# EAGLE library part DS90C363B_DS90C365_THC63LVDM63R (library m-pad)
National Smeiconductors DS90CF363B +3.3V Programmable LVDS Transmitter 18-Bit Flat Panel Display (FPD) Link -65 MHz General Description: The DS90CF363B transmitter converts 21 bits of CMOS/TTL data into three LVDS (Low Voltage Differential Signaling) data streams. A phase-locked transmit clock is transmitted in parallel with the data streams over a fourth LVDS link. Every cycle of the transmit clock 21 bits of input data are sampled and transmitted. At a transmit clock frequency of 65 MHz, 18 bits of RGB data and 3 bits of LCD timing and control data (FPLINE, FPFRAME, DRDY) are transmitted at a rate of 455 Mbps per LVDS data channel. Using a 65 MHz clock, the data throughput is 170 Mbytes/sec. The DS90CF363B is fixed as a Falling edge strobe transmitter and will interoperate with a Falling edge strobe Receiver (DS90CF366) without any translation logic. This chipset is an ideal means to solve EMI and cable size problems associated with wide, high speed TTL interfaces. Features: No special start-up sequence required between clock/data and /PD pins. Input signal (clock and data) can be applied either before or after the device is powered. Support Spread Spectrum Clocking up to 100KHz frequency modulation & deviations of ±2.5% center spread or 5% down spread. "Input Clock Detection" feature will pull all LVDS pairs to logic low when input clock is missing and when /PD pin is logic high. 18 to 68 MHz shift clock support Best-in-Class Set & Hold Times on TxINPUTs Tx power consumption < 130 mW (typ) @65MHz Grayscale 40% Less Power Dissipation than BiCMOS Alternatives Tx Power-down mode < 37?W (typ) Supports VGA, SVGA, XGA and Dual Pixel SXGA. Narrow bus reduces cable size and cost Up to 1.3 Gbps throughput Up to 170 Megabytes/sec bandwidth 345 mV (typ) swing LVDS devices for low EMI PLL requires no external components Compatible with TIA/EIA-644 LVDS standard Low profile 48-lead TSSOP package Improved replacement for: SN75LVDS84, DS90CF363A National Smeiconductors DS90C365 +3.3V Programmable LVDS Transmitter 18-Bit Flat Panel Display (FPD) Link-85 MHz General Description: The DS90C385 transmitter converts 28 bits of LVCMOS/ LVTTL data into four LVDS (Low Voltage Differential Signaling) data streams. A phase-locked transmit clock is transmitted in parallel with the data streams over a fifth LVDS link. Every cycle of the transmit clock 28 bits of input data are sampled and transmitted. At a transmit clock frequency of 85 MHz, 24 bits of RGB data and 3 bits of LCD timing and control data (FPLINE, FPFRAME, DRDY) are transmitted at a rate of 595 Mbps per LVDS data channel. Using a 85 MHz clock, the data throughput is 297.5 Mbytes/sec. Also available is the DS90C365 that converts 21 bits of LVCMOS/ LVTTL data into three LVDS (Low Voltage Differential Signaling) data streams. Both transmitters can be programmed for Rising edge strobe or Falling edge strobe through a dedicated pin. A Rising edge or Falling edge strobe transmitter will interoperate with a Falling edge strobe Receiver (DS90CF366) without any translation logic. The DS90C385 is also offered in a 64 ball, 0.8mm fine pitch ball grid array (FBGA) package which provides a 44 % reduction in PCB footprint compared to the TSSOP package. This chipset is an ideal means to solve EMI and cable size problems associated with wide, high-speed TTL interfaces. Features: 20 to 85 MHz shift clock support Best?in?Class Set & Hold Times on TxINPUTs Tx power consumption <130 mW (typ) @85MHz Grayscale Tx Power-down mode <200uW (max) Supports VGA, SVGA, XGA and Dual Pixel SXGA. Narrow bus reduces cable size and cost Up to 2.38 Gbps throughput Up to 297.5 Megabytes/sec bandwidth 345 mV (typ) swing LVDS devices for low EMI PLL requires no external components Compatible with TIA/EIA-644 LVDS standard Low profile 56-lead or 48-lead TSSOP package DS90C385 also available in a 64 ball, 0.8mm fine pitch ball grid array (FBGA) package THine Electronics THC63LVDM63R REDUCED SWING LVDS 18Bit COLOR HOST-LCD PANEL INTERFACE General Description: The THC63LVDM83R transmitter converts 28bits of CMOS/TTL data into LVDS (Low Voltage Differential Signaling) data stream. A phase-locked transmit clockis transmitted in parallel with the data streams over a fifth LVDS link. At a transmit clock frequency of 85MHz, 28bits of RGB data and 4bits of LCD timing and control data (HSYNC, VSYNC, CNTL1, CNTL2) are transmitted at a rate of 595Mbps per LVDS channel. Also available is THC63LVDM63R that converts 21bits of CMOS/TTL data into LVDS(Low Voltage Differential Signaling) data stream. Both transmitters can be programmed reduced swing LVDS through a dedicated pin for low power consumption and EMI. Features: 28:4 Data channel compression at up to 298 Megabytes per sec throughput Wide dot clock range: 20-85MHz suited for VGA, SVGA, XGA and SXGA Narrow bus (10 lines or 8 lines) reduces cable size Support Reduced swing LVDS for Low EMI 200mV swing LVDS/350mV swing LVDS selectable Support Spread Spectrum Clock Generator On chip Input Jitter Filtering PLL requires No external components Single 3.3V supply with 125mW(TYP) Power-Down Mode Low profile 56 or 48 Lead TSSOP Package Clock Edge Programmable Improved Replacement for the National DS90C383 or DS90C363 Please send any comments to: messi@users.sourceforge.net
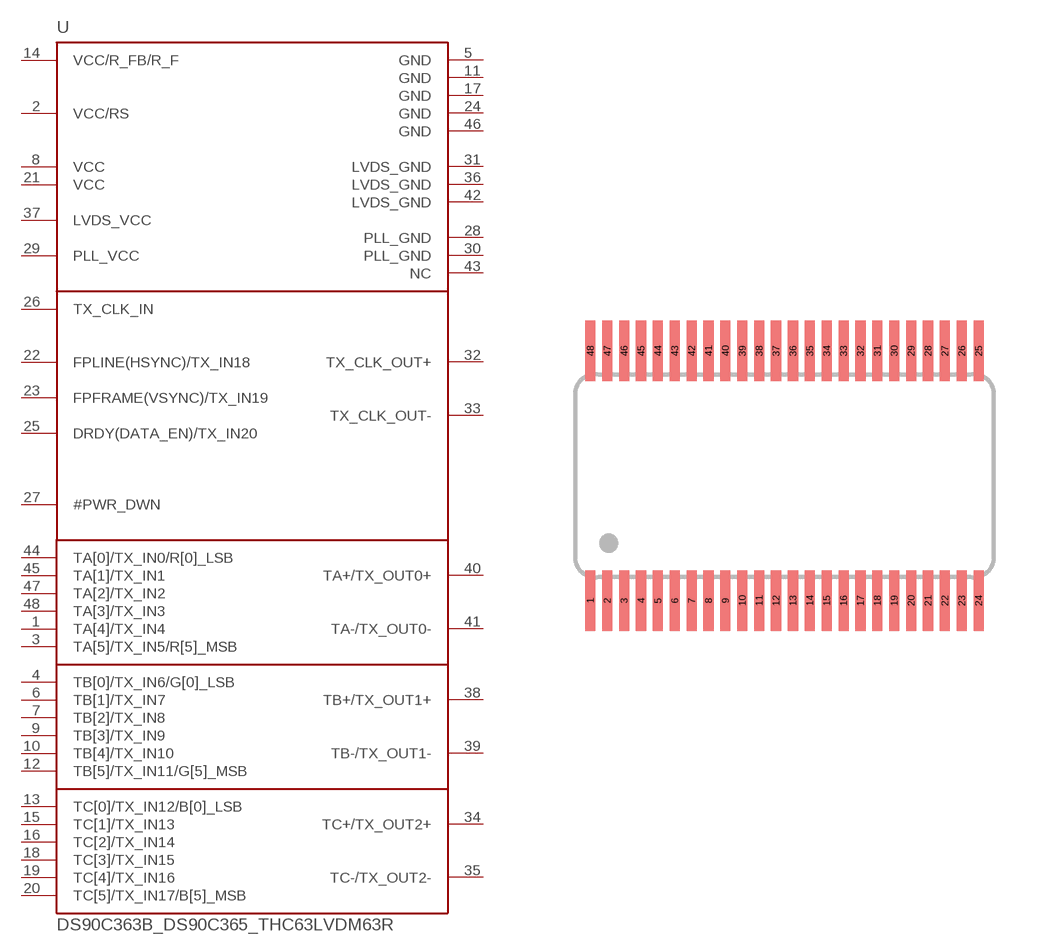
[diagram p87: symbol with the pads of TSSOP-48; footprint TSSOP-48]

Designator prefix U

## DS90C363B_DS90C365_THC63LVDM63R  [TSSOP-48]
1  TA[4]/TX_IN4  in
2  VCC/RS  pwr
3  TA[5]/TX_IN5/R[5]_MSB  in
4  TB[0]/TX_IN6/G[0]_LSB  in
5  GND  pwr
6  TB[1]/TX_IN7  in
7  TB[2]/TX_IN8  in
8  VCC  pwr
9  TB[3]/TX_IN9  in
10  TB[4]/TX_IN10  in
11  GND  pwr
12  TB[5]/TX_IN11/G[5]_MSB  in
13  TC[0]/TX_IN12/B[0]_LSB  in
14  VCC/R_FB/R_F  pwr
15  TC[1]/TX_IN13  in
16  TC[2]/TX_IN14  in
17  GND  pwr
18  TC[3]/TX_IN15  in
19  TC[4]/TX_IN16  in
20  TC[5]/TX_IN17/B[5]_MSB  in
21  VCC  pwr
22  FPLINE(HSYNC)/TX_IN18
23  FPFRAME(VSYNC)/TX_IN19
24  GND  pwr
25  DRDY(DATA_EN)/TX_IN20
26  TX_CLK_IN  in
27  #PWR_DWN
28  PLL_GND  pwr
29  PLL_VCC  pwr
30  PLL_GND  pwr
31  LVDS_GND  pwr
32  TX_CLK_OUT+  out
33  TX_CLK_OUT-  out
34  TC+/TX_OUT2+  out
35  TC-/TX_OUT2-  out
36  LVDS_GND  pwr
37  LVDS_VCC  pwr
38  TB+/TX_OUT1+  out
39  TB-/TX_OUT1-  out
40  TA+/TX_OUT0+  out
41  TA-/TX_OUT0-  out
42  LVDS_GND  pwr
43  NC  nc
44  TA[0]/TX_IN0/R[0]_LSB  in
45  TA[1]/TX_IN1  in
46  GND  pwr
47  TA[2]/TX_IN2  in
48  TA[3]/TX_IN3  in

## Footprint TSSOP-48 (pad centres in mm)
smd 0.3 x 1.8: 1 -5.75,-3.7; 2 -5.25,-3.7; 3 -4.75,-3.7; 4 -4.25,-3.7; 5 -3.75,-3.7; 6 -3.25,-3.7; 7 -2.75,-3.7; 8 -2.25,-3.7; 9 -1.75,-3.7; 10 -1.25,-3.7; 11 -0.75,-3.7; 12 -0.25,-3.7; 13 0.25,-3.7; 14 0.75,-3.7; 15 1.25,-3.7; 16 1.75,-3.7; 17 2.25,-3.7; 18 2.75,-3.7; 19 3.25,-3.7; 20 3.75,-3.7; 21 4.25,-3.7; 22 4.75,-3.7; 23 5.25,-3.7; 24 5.75,-3.7; 25 5.75,3.7; 26 5.25,3.7; 27 4.75,3.7; 28 4.25,3.7; 29 3.75,3.7; 30 3.25,3.7; 31 2.75,3.7; 32 2.25,3.7; 33 1.75,3.7; 34 1.25,3.7; 35 0.75,3.7; 36 0.25,3.7; 37 -0.25,3.7; 38 -0.75,3.7; 39 -1.25,3.7; 40 -1.75,3.7; 41 -2.25,3.7; 42 -2.75,3.7; 43 -3.25,3.7; 44 -3.75,3.7; 45 -4.25,3.7; 46 -4.75,3.7; 47 -5.25,3.7; 48 -5.75,3.7